# Altium schematic symbol library sym-0012.SchLib: 1 symbol
Pins are listed as number, name and electrical type; pins without a type are passive.

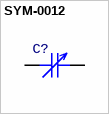
[diagram p0: symbol SYM-0012]

## SYM-0012
designator C?
Variable Capacitor
pins: 1, 2